# Altium footprint library Wurth_Elektronik_Passive_rev16a.PCBLIB: 810 footprints (part 7 of 51)
Each footprint in its own frame and in the unit in brackets; x right, y up, seen from the top. Pads: shape width x height; smd on the part's side, far side on the other; paste and mask are expansions set on the pad; w line width, h text height; cw(c..) or ccw(c..) is an arc to the next point about the centre after c.
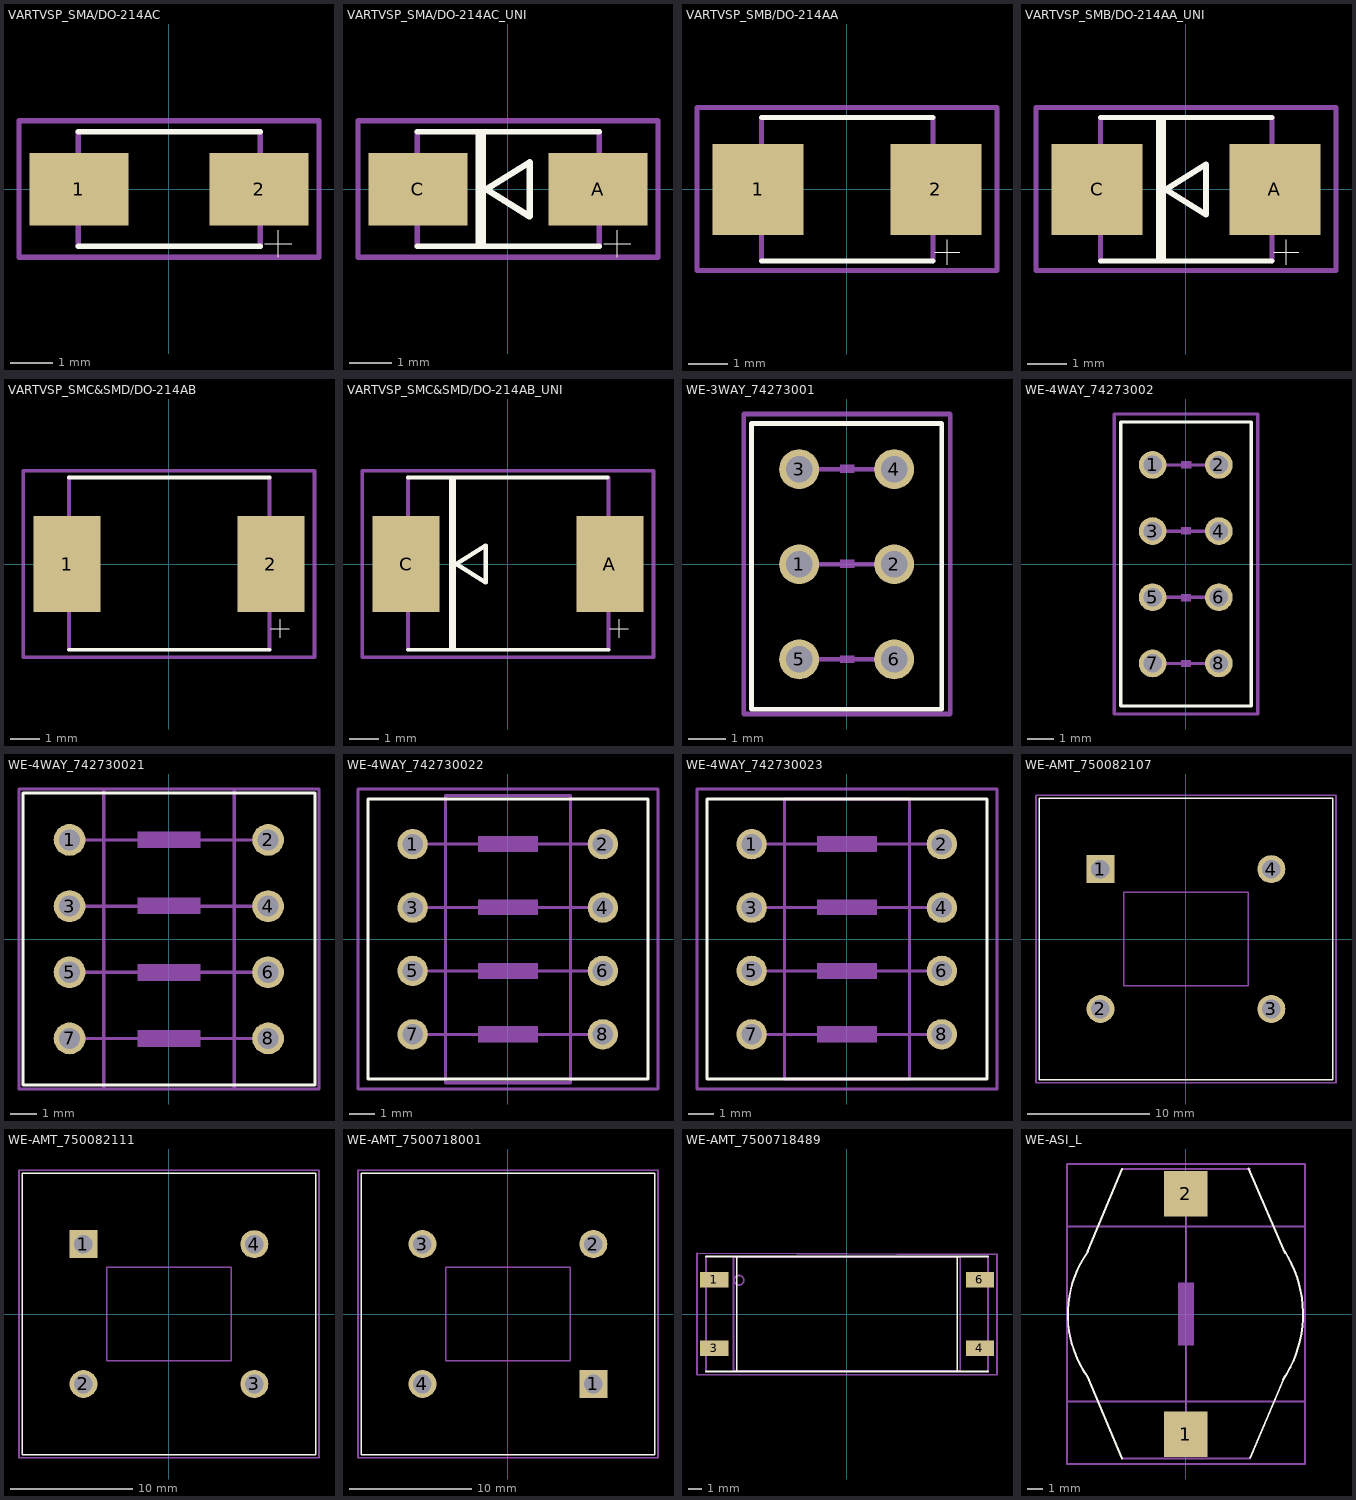
[diagram p6: the footprints below, top view; thin cyan lines are the x and y axes]

## VARTVSP_SMA/DO-214AC [mil]
pads (2):
  rect 91x67 smd: 1(-82.68,0) 2(83,0)
Top Overlay:
  lines w0: 88,-50 113,-50 ; 100,-62.5 100,-37.5
  lines w5: -83.46,-52.56 84,-52.56 ; -83.46,53 84,53
Mechanical 2:
  text ">NAME" at -150,100 h77.5
Mechanical 4:
  text ">VALUE" at -150,-150 h77.5
Mechanical 16:
  lines w5: -83.46,-52.56 -83.46,53 ; 84,-52.56 84,53
Mechanical 27:
  lines w5: -137.8,-62.4 -137.8,63 138,63 138,-62.4 -137.8,-62.4

## VARTVSP_SMA/DO-214AC_UNI [mil]
pads (2):
  rect 91x67 smd: A(83,0) C(-82.68,0)
Top Overlay:
  lines w0: 88,-50 113,-50 ; 100,-62.5 100,-37.5
  lines w5: -83.46,-52.56 84,-52.56 ; -83.46,53 84,53
  lines w6: -20,0 20,-25 20,25 -20,0
  lines w10: -25,-50 -25,50
Mechanical 2:
  text ">NAME" at -150,100 h77.5
Mechanical 4:
  text ">VALUE" at -150,-150 h77.5
Mechanical 16:
  lines w5: -83.46,-52.56 -83.46,53 ; 84,-52.56 84,53
Mechanical 27:
  lines w5: -137.8,-62.4 -137.8,63 138,63 138,-62.4 -137.8,-62.4

## VARTVSP_SMB/DO-214AA [mil]
pads (2):
  rect 91x91 smd: 1(-88.58,0) 2(89,0)
Top Overlay:
  lines w0: 88,-62.5 113,-62.5 ; 100,-75 100,-50
  lines w5: -85.04,-71.26 86,-71.26 ; -85.04,72 86,72
Mechanical 2:
  text ">NAME" at -100,100 h77.5
Mechanical 4:
  text ">VALUE" at -100,-150 h77.5
Mechanical 16:
  lines w5: -85.04,-71.26 -85.04,72 ; 86,-71.26 86,72
Mechanical 27:
  lines w5: -149.61,-81.1 -149.61,82 150,82 150,-81.1 -149.61,-81.1

## VARTVSP_SMB/DO-214AA_UNI [mil]
pads (2):
  rect 91x91 smd: A(89,0) C(-88.58,0)
Top Overlay:
  lines w0: 88,-62.5 113,-62.5 ; 100,-75 100,-50
  lines w5: -85.04,-71.26 86,-71.26 ; -85.04,72 86,72
  lines w6: -20,0 20,-25 20,25 -20,0
  lines w10: -25,-68.9 -25,69
Mechanical 2:
  text ">NAME" at -100,100 h77.5
Mechanical 4:
  text ">VALUE" at -100,-150 h77.5
Mechanical 16:
  lines w5: -85.04,-71.26 -85.04,72 ; 86,-71.26 86,72
Mechanical 27:
  lines w5: -149.61,-81.1 -149.61,82 150,82 150,-81.1 -149.61,-81.1

## VARTVSP_SMC&SMD/DO-214AB [mil]
pads (2):
  rect 91x130 smd: 1(-137.8,0) 2(138,0)
Top Overlay:
  lines w0: 138,-87.5 163,-87.5 ; 150,-100 150,-75
  lines w5: -135.04,-116.14 136,-116.14 ; -135.04,117 136,117
Mechanical 2:
  text ">NAME" at -150,150 h77.5
Mechanical 4:
  text ">VALUE" at -150,-200 h77.5
Mechanical 16:
  lines w5: -135.04,-116.14 -135.04,117 ; 136,-116.14 136,117
Mechanical 27:
  lines w5: -196.85,-125.98 -196.85,126 197,126 197,-125.98 -196.85,-125.98

## VARTVSP_SMC&SMD/DO-214AB_UNI [mil]
pads (2):
  rect 91x130 smd: A(138,0) C(-137.8,0)
Top Overlay:
  lines w0: 138,-87.5 163,-87.5 ; 150,-100 150,-75
  lines w5: -135.04,-116.14 136,-116.14 ; -135.04,117 135,117
  lines w6: -70,0 -30,-25 -30,25 -70,0
  lines w10: -75,-113.39 -75,114
Mechanical 2:
  text ">NAME" at -150,150 h77.5
Mechanical 4:
  text ">VALUE" at -150,-200 h77.5
Mechanical 16:
  lines w5: -135.04,-116.14 -135.04,117 ; 136,-116.14 136,117
Mechanical 27:
  lines w5: -196.85,-125.98 -196.85,126 197,126 197,-125.98 -196.85,-125.98

## WE-3WAY_74273001 [mil]
pads (6):
  round 42 hole 28: 1(-50,0) 2(50,0) 3(-50,100) 4(50,100) 5(-50,-100) 6(50,-100)
Top Overlay:
  lines w5: -100,-152.36 -100,148 100,148 100,-152.36 -100,-152.36
Mechanical 2:
  text ">NAME" at -150,-250 h77.5
Mechanical 4:
  text ">VALUE" at -150,200 h77.5
Mechanical 16:
  rectangle: -7,96 8,105
  rectangle: -7,-4 8,5
  rectangle: -7,-104 8,-96
  lines w5: -50,-100 50,-100 ; -50,0 50,0 ; -50,100 50,100
Mechanical 27:
  lines w5: -108.27,-157.48 109,-157.48 109,158 -108.27,158 -108.27,-157.48

## WE-4WAY_74273002 [mil]
pads (8):
  round 42 hole 28: 1(-50,150) 2(50,150) 3(-50,50) 4(50,50) 5(-50,-50) 6(50,-50) 7(-50,-150) 8(50,-150)
Top Overlay:
  lines w5: -98.43,-214.17 -98.43,215 99,215 99,-214.17 -98.43,-214.17
Mechanical 2:
  text ">NAME" at -150,-300 h77.5
Mechanical 4:
  text ">VALUE" at -150,250 h77.5
Mechanical 16:
  rectangle: -7,45 8,56
  rectangle: -7,145 9,156
  rectangle: -7,-56 8,-45
  rectangle: -7,-155 8,-145
  lines w5: -50,-150 50,-150 ; -50,-50 50,-50 ; -50,50 50,50 ; -50,150 50,150
Mechanical 27:
  lines w5: -108.27,-226.38 109,-226.38 109,227 -108.27,227 -108.27,-226.38

## WE-4WAY_742730021 [mil]
pads (8):
  round 48 hole 32: 1(-150,150) 2(150,150) 3(-150,50) 4(150,50) 5(-150,-50) 6(150,-50) 7(-150,-150) 8(150,-150)
Top Overlay:
  lines w5: -220.47,-220.47 -220.47,221 221,221 221,-220.47 -220.47,-220.47
Mechanical 2:
  text ">NAME" at -150,-318.5 h77.5
Mechanical 4:
  text ">VALUE" at -150,269 h77.5
Mechanical 10:
  lines w5: -98.43,-226.38 -98.43,227 99,227 99,-226.38 -98.43,-226.38
Mechanical 16:
  rectangle: -47.24,38 48,63
  rectangle: -47.24,-62.99 48,-37.79
  rectangle: -47.24,-162.99 48,-137
  rectangle: -47.24,138 48,163
  lines w5: -150,-150 150,-150 ; -150,-50 150,-50 ; -150,50 150,50 ; -150,150 150,150
Mechanical 27:
  lines w5: -226.38,-226.38 227,-226.38 227,227 -226.38,227 -226.38,-226.38

## WE-4WAY_742730022 [mil]
pads (8):
  round 48 hole 32: 1(-150,150) 2(150,150) 3(-150,50) 4(150,50) 5(-150,-50) 6(150,-50) 7(-150,-150) 8(150,-150)
Top Overlay:
  lines w5: -220.47,-220.47 -220.47,221 221,221 221,-220.47 -220.47,-220.47
Mechanical 2:
  text ">NAME" at -150,-318.5 h77.5
Mechanical 4:
  text ">VALUE" at -150,269 h77.5
Mechanical 10:
  lines w5: -98.43,-226.38 -98.43,227 99,227 99,-226.38 -98.43,-226.38
Mechanical 16:
  rectangle: -47.24,38 48,63
  rectangle: -47.24,-62.99 48,-37.79
  rectangle: -47.24,-162.99 48,-137
  rectangle: -47.24,138 48,163
  lines w5: -150,-150 150,-150 ; -150,-50 150,-50 ; -150,50 150,50 ; -150,150 150,150
Mechanical 27:
  lines w5: -236.22,-236.22 -236.22,237 237,237 237,-236.22 -236.22,-236.22

## WE-4WAY_742730023 [mil]
pads (8):
  round 48 hole 32: 1(-150,150) 2(150,150) 3(-150,50) 4(150,50) 5(-150,-50) 6(150,-50) 7(-150,-150) 8(150,-150)
Top Overlay:
  lines w5: -220.47,-220.47 -220.47,221 221,221 221,-220.47 -220.47,-220.47
Mechanical 2:
  text ">NAME" at -150,-318.5 h77.5
Mechanical 4:
  text ">VALUE" at -150,269 h77.5
Mechanical 10:
  lines w5: -98.43,-220.47 -98.43,221 99,221 99,-220.47 -98.43,-220.47
Mechanical 16:
  rectangle: -47.24,38 48,63
  rectangle: -47.24,-62.99 48,-37.79
  rectangle: -47.24,-162.99 48,-137
  rectangle: -47.24,138 48,163
  lines w5: -150,-150 150,-150 ; -150,-50 150,-50 ; -150,50 150,50 ; -150,150 150,150
Mechanical 27:
  lines w5: -236.22,-236.22 -236.22,237 237,237 237,-236.22 -236.22,-236.22

## WE-AMT_750082107 [mil]
pads (4):
  rect 90x90 hole 60: 1(-275,225)
  round 90 hole 60: 2(-275,-225) 3(275,-225) 4(275,225)
Top Overlay:
  lines w5: -472.44,-452.76 473,-452.76 473,453 -472.44,453 -472.44,-452.76
Mechanical 2:
  text ">NAME" at -472.44,512 h77.5
Mechanical 4:
  text ">VALUE" at -468.11,-557.48 h77.5
Mechanical 10:
  lines w5: -200,-150 -200,150 200,150 200,-150 -200,-150
Mechanical 27:
  lines w5: -482.28,-462.6 -482.28,463 483,463 483,-462.6 -482.28,-462.6

## WE-AMT_750082111 [mil]
pads (4):
  rect 90x90 hole 60: 1(-275,225)
  round 90 hole 60: 2(-275,-225) 3(275,-225) 4(275,225)
Top Overlay:
  lines w5: -472.44,-452.76 473,-452.76 473,453 -472.44,453 -472.44,-452.76
Mechanical 2:
  text ">NAME" at -472.44,512 h77.5
Mechanical 4:
  text ">VALUE" at -468.11,-557.48 h77.5
Mechanical 10:
  lines w5: -200,-150 -200,150 200,150 200,-150 -200,-150
Mechanical 27:
  lines w5: -482.28,-462.6 -482.28,463 483,463 483,-462.6 -482.28,-462.6

## WE-AMT_7500718001 [mil]
pads (4):
  rect 90x90 hole 60: 1(275,-225)
  round 90 hole 60: 2(275,225) 3(-275,225) 4(-275,-225)
Top Overlay:
  lines w5: -472.44,-452.95 473,-452.95 473,453 -472.44,453 -472.44,-452.95
Mechanical 2:
  text ">NAME" at -472.44,512 h77.5
Mechanical 4:
  text ">VALUE" at -468.11,-557.48 h77.5
Mechanical 10:
  lines w5: -200,-150 -200,150 200,150 200,-150 -200,-150
Mechanical 27:
  lines w5: -482.28,-462.8 -482.28,463 483,463 483,-462.8 -482.28,-462.8

## WE-AMT_7500718489 [mil]
pads (4):
  rect 82x45 smd: 1(-387.2,100) 3(-387.2,-100) 4(388,-100) 6(388,100)
Top Overlay:
  lines w5: -411.02,-167.32 -321.06,-167.32 ; -411.02,168 -321.06,168 ; 412,-167.32 322,-167.32 ; 412,168 322,168 ; -321.06,-167.32 322,-167.32 ; -321.06,-167.32 -321.06,168 ; -321.06,168 322,168 ; 322,-167.32 322,168
Mechanical 2:
  circle w5: c-314.96,99 r14
  text ">NAME" at -393.7,197 h77.5
Mechanical 4:
  text ">VALUE" at -393.7,-236.22 h77.5
Mechanical 10:
  lines w5: -330.71,-165.35 -330.71,166 331,166 331,-165.35 -330.71,-165.35
Mechanical 16:
  lines w5: -411.02,-167.32 -411.02,168 ; 412,-167.32 412,168
Mechanical 27:
  lines w5: -437.4,-177.17 438,-177.17 438,174 -437.4,178 -437.4,-177.17

## WE-ASI_L [mil]
pads (2):
  rect 110x115 smd: 1(0,-302.56) 2(0,303)
Top Overlay:
  lines w5: -248.03,158 -161.42,365 ; -246.06,158 ccw(c-26.21,-1.12) -248.03,-157.48 -161.42,-364.17 ; 158,367 250,154 ; 162,-362.2 249,-157.48 ; 245,-165.35 ccw(c-2.31,-0.59) 249,158
Mechanical 2:
  text ">NAME" at -311.22,437 h77.5
Mechanical 4:
  text ">VALUE" at -311.02,-472.44 h77.5
Mechanical 10:
  lines w5: -299.21,-220.47 300,-220.47 300,221 -299.21,221 -299.21,-220.47
Mechanical 16:
  region: 20,79 -19.69,79 -19.69,-78.74 20,-78.74
  lines w5: -161.42,-364.17 162,-364.17 ; -161.42,365 162,365 ; 0,-302.56 0,303
Mechanical 27:
  lines w5: -299.21,-377.95 300,-377.95 300,378 -299.21,378 -299.21,-377.95